# Altium schematic symbol library Quartz_HC49_4H.SchLib: 1 symbol
Pins are listed as number, name and electrical type; pins without a type are passive.

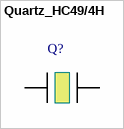
[diagram p0: symbol Quartz_HC49/4H]

## Quartz_HC49/4H
designator Q?  (value not drawn)
Quartz
footprint HC49_US
pins: 1, 2